# Altium footprint library tor1kkLib.PcbLib: 48 footprints (part 2 of 3)
Each footprint in its own frame and in the unit in brackets; x right, y up, seen from the top. Pads: shape width x height; smd on the part's side, far side on the other; paste and mask are expansions set on the pad; w line width, h text height; cw(c..) or ccw(c..) is an arc to the next point about the centre after c.
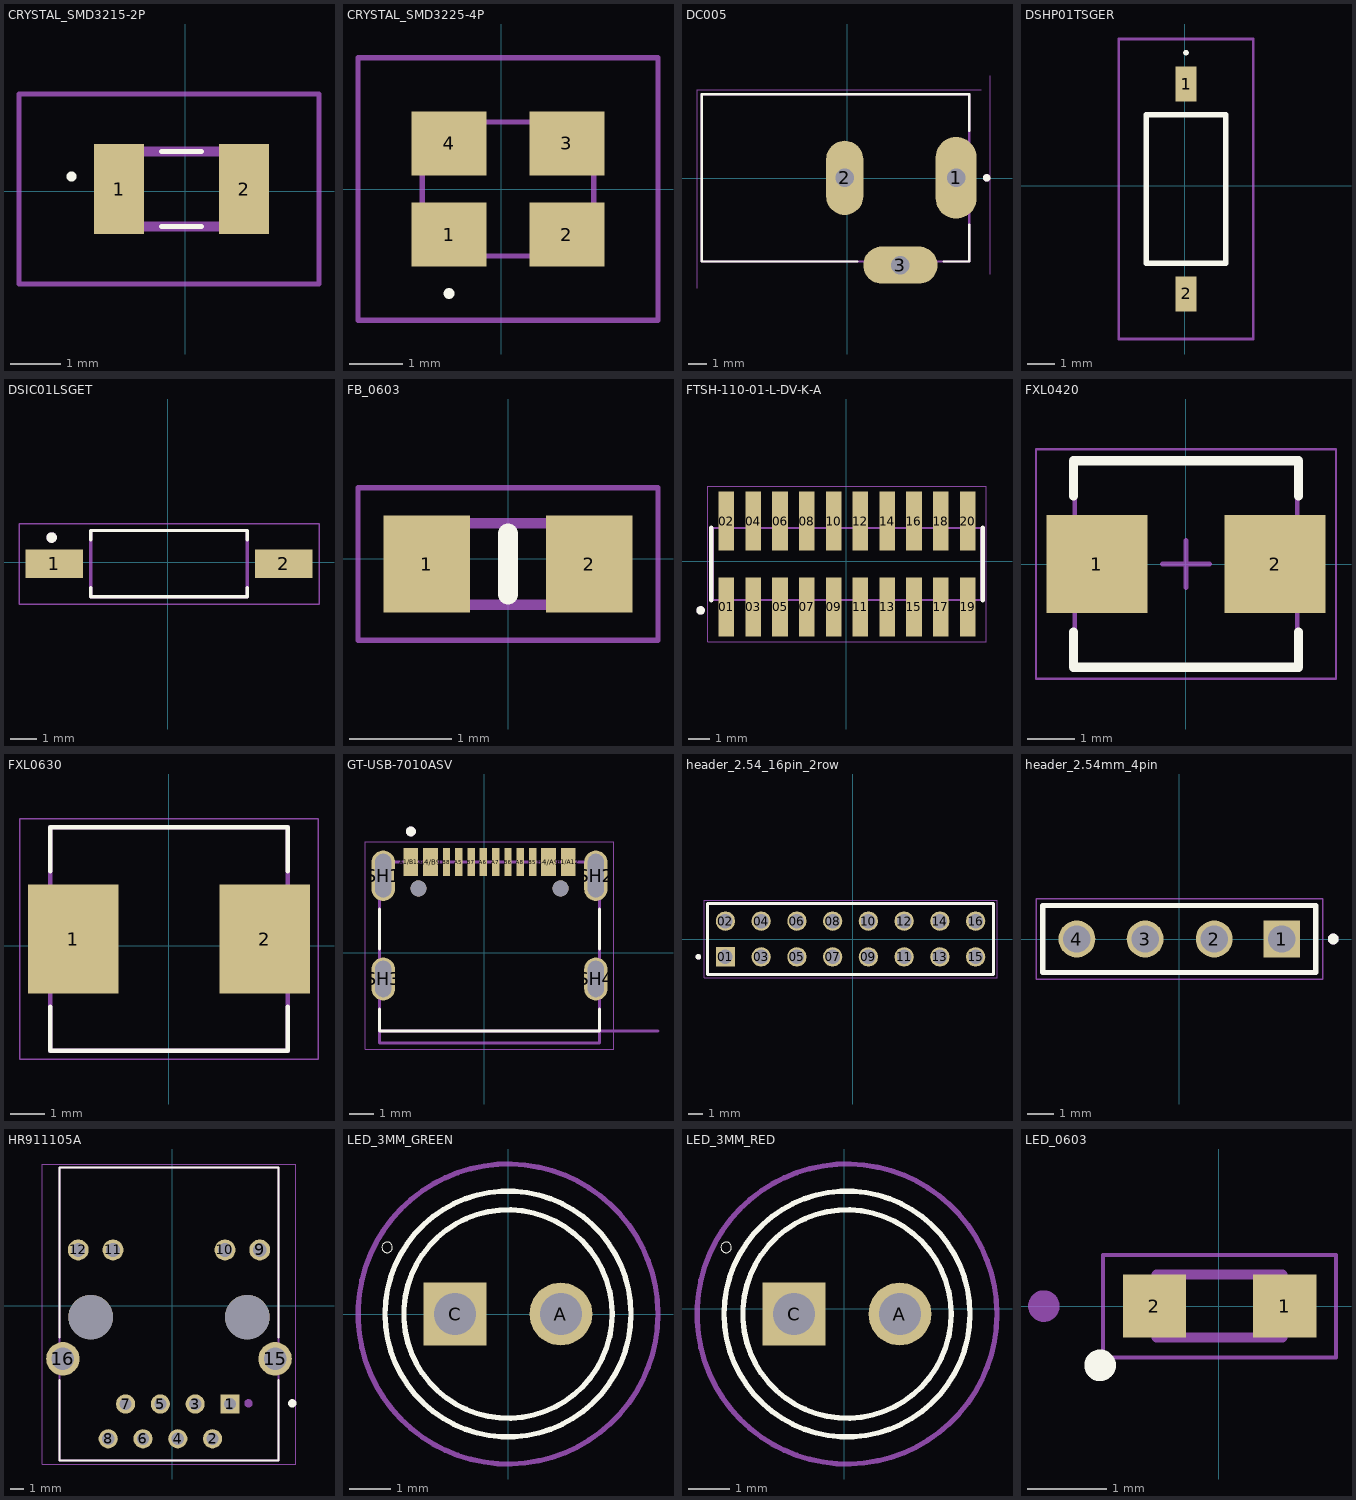
[diagram p1: the footprints below, top view; thin cyan lines are the x and y axes]

## CRYSTAL_SMD3215-2P [mm]
pads (2):
  rect 1x1.8 smd: 1(-1.323,0.041) 2(1.177,0.041)
Top Overlay:
  lines w0.1: -0.473,-0.709 0.327,-0.709 ; -0.473,0.791 0.327,0.791 ; -2.273,0.241 ccw(c-2.273,0.291) -2.273,0.341 ccw(c-2.273,0.291) -2.273,0.241
Mechanical 13:
  lines w0.2: -1.673,-0.709 1.527,-0.709 1.527,0.791 -1.673,0.791 -1.673,-0.709
Mechanical 15:
  lines w0.1: -3.323,-1.859 2.677,-1.859 2.677,1.941 -3.323,1.941 -3.323,-1.859
3D body "NX3215SA-32.768K-EXS00A-MU00003.STEP": height 0.9, standoff 0, extent -1.6,-0.709 1.6,0.791

## CRYSTAL_SMD3225-4P [mm]
pads (4):
  rect 1.4x1.2 smd: 1(-0.973,-0.85) 2(1.227,-0.85) 3(1.227,0.85) 4(-0.973,0.85)
Top Overlay:
  lines w0.1: -0.973,-2 cw(c-0.973,-1.95) -0.973,-1.9 cw(c-0.973,-1.95) -0.973,-2
Mechanical 13:
  lines w0.1: -1.473,-1.25 1.727,-1.25 1.727,1.25 -1.473,1.25 -1.473,-1.25
Mechanical 15:
  lines w0.1: -2.673,-2.45 2.927,-2.45 2.927,2.45 -2.673,2.45 -2.673,-2.45
3D body "TAXM8M4RDBCCT2T.stp": height 0.9, standoff 0, extent -1.553,-1.33 1.807,1.33

## DC005 [mm]
pads (3):
  oval 2.2x4.4 hole 1 square: 1(5.853,0.01)
  oval 2x4 hole 1 square: 2(-0.147,0.01)
  oval 4x2 hole 1 square: 3(2.853,-4.69)
Top Overlay:
  circle w0.2: c7.5,0.01 r0.1
  lines w0.127: 0.533,-4.49 -7.847,-4.49 -7.847,4.51 6.553,4.51 6.553,2.53 ; 5.173,-4.49 6.553,-4.49 6.553,-2.51
Mechanical 13:
  circle w0.2: c7.5,0.01 r0.1
  lines w0.127: -7.847,-4.49 6.553,-4.49 6.553,4.51 -7.847,4.51 -7.847,-4.49
Mechanical 15:
  lines w0.05: -8.097,-5.94 -8.097,4.76 7.203,4.76 ; 7.703,-5.19 7.703,5.51
3D body "DC-005.STEP": height 11, standoff -4.39, extent -7.9,-4.65 6.4,4.75

## DSHP01TSGER [mil]
pads (2):
  rect 29.92x50 smd: 1(2,145) 2(2,-155)
Top Overlay:
  lines w3.94: 2,187.91 ccw(c2,189.88) 2,191.85 ccw(c2,189.88) 2,187.91
  lines w7.87: -54.69,-111.3 58.69,-111.3 58.69,101.3 -54.69,101.3 -54.69,-111.3
Mechanical 13:
  lines w3.94: -54.69,-111.3 58.69,-111.3 58.69,101.3 -54.69,101.3 -54.69,-111.3
Mechanical 15:
  lines w3.94: -94.06,-219.37 98.06,-219.37 98.06,209.37 -94.06,209.37 -94.06,-219.37
3D body "416131160801+%28rev1%29.stp": height 106.3, standoff 1.97, extent -48.03,-174.08 48.03,166.08

## DSIC01LSGET [mm]
pads (2):
  rect 2.2x1.1 smd: 1(-4.36,-0.052) 2(4.44,-0.052)
Top Overlay:
  circle w0.2: c-4.46,0.948 r0.1
  lines w0.127: -2.96,-0.967 -2.96,-1.322 3.04,-1.322 3.04,-0.967 ; -2.96,0.863 -2.96,1.218 3.04,1.218 3.04,0.863
Mechanical 13:
  circle w0.2: c-4.46,0.948 r0.1
  lines w0.127: -2.96,-1.322 3.04,-1.322 3.04,1.218 -2.96,1.218 -2.96,-1.322
Mechanical 15:
  lines w0.05: -5.71,-1.6 -5.71,1.468 5.79,1.468 5.79,-1.6 -5.71,-1.6
3D body "A6S-1104-H--3DModel-STEP-273799.STEP": height 4.4, standoff 0, extent -4.722,-1.778 5.078,1.702

## FB_0603 [mm]
pads (2):
  rect 0.85x0.95 smd: 1(-0.8,-0.05) 2(0.8,-0.05)
Top Overlay:
  lines w0.2: 0,-0.35 0,0.25
Mechanical 13:
  lines w0.1: -0.8,-0.45 -0.8,0.35 0.8,0.35 0.8,-0.45 -0.8,-0.45
Mechanical 15:
  lines w0.05: -1.475,-0.8 -1.475,0.7 1.475,0.7 1.475,-0.8 -1.475,-0.8
3D body "Z0603C151BPWZT.stp": height 0.9, standoff 0, extent -0.85,-0.5 0.85,0.4

## FTSH-110-01-L-DV-K-A [mm]
pads (20):
  rect 0.74x2.79 smd: 01(-5.683,-2.172) 02(-5.683,1.898) 03(-4.413,-2.172) 04(-4.413,1.898) 05(-3.143,-2.172) 06(-3.143,1.898) 07(-1.873,-2.172) 08(-1.873,1.898) 09(-0.603,-2.172) 10(-0.603,1.898) 11(0.667,-2.172) 12(0.667,1.898) 13(1.937,-2.172) 14(1.937,1.898) 15(3.207,-2.172) 16(3.207,1.898) 17(4.477,-2.172) 18(4.477,1.898) 19(5.747,-2.172) 20(5.747,1.898)
Top Overlay:
  circle w0.2: c-6.908,-2.337 r0.1
  lines w0.2: -6.403,-1.852 -6.403,1.578 ; 6.467,-1.852 6.467,1.578
Mechanical 13:
  circle w0.2: c-6.908,-2.337 r0.1
  lines w0.1: -6.318,-1.852 -6.318,1.578 6.382,1.578 6.382,-1.852 -6.318,-1.852
Mechanical 15:
  lines w0.05: -6.568,-3.817 6.632,-3.817 6.632,3.543 -6.568,3.543 -6.568,-3.817
3D body "FTSH-110-01-L-DV-K-A.stp": height 5.71, standoff -1.27, extent -6.35,-3.058 6.35,2.784

## FXL0420 [mm] "SMD,4.2x4.4mm Power Inductors ROHS"
height 2.5
pads (2):
  rect 2.15x2.1 smd: 1(-1.9,0) 2(1.9,0)
Top Overlay:
  lines w0.2: -2.4,-1.45 -2.4,-2.2 2.4,-2.2 2.4,-1.45 ; -2.4,1.45 -2.4,2.2 2.4,2.2 2.4,1.45
Mechanical 13:
  lines w0.1: -2.375,-2.2 2.375,-2.2 2.375,2.2 -2.375,2.2 -2.375,-2.2
Mechanical 15:
  lines w0.05: -3.2,-2.45 3.2,-2.45 3.2,2.45 -3.2,2.45 -3.2,-2.45
  lines w0.1: -0.5,0 0.5,0 ; 0,-0.5 0,0.5
3D body "MPIA4012V2-1R0-R.stp": height 1.3, standoff -0.1, extent -2.4,-1.981 2.4,2.219

## FXL0630 [mm]
pads (2):
  rect 2.67x3.21 smd: 1(-2.808,0.205) 2(2.832,0.205)
Top Overlay:
  lines w0.127: -3.488,-1.795 -3.488,-3.095 3.512,-3.095 3.512,-1.795 ; -3.488,2.205 -3.488,3.505 3.512,3.505 3.512,2.205
Mechanical 13:
  lines w0.127: -3.488,-3.095 -3.488,3.505 3.512,3.505 3.512,-3.095 -3.488,-3.095
Mechanical 15:
  lines w0.05: -4.393,-3.345 -4.393,3.755 4.417,3.755 4.417,-3.345 -4.393,-3.345
3D body "AMPLA7030S-4R7MT--3DModel-STEP-368357.STEP": height 2.8, standoff -0.07, extent -3.708,-3.095 3.732,3.505

## GT-USB-7010ASV [mm] "USB 2.0 3A 1 Horizontal attachment 16P Female -40℃~+85℃ Type-C SMD USB Connectors ROHS"
pads (18):
  rect 0.6x1.14 smd mask+0.05: A1/B12(-2.977,3.684) A4/B9(-2.177,3.684) B1/A12(3.423,3.684) B4/A9(2.623,3.684)
  rect 0.3x1.14 smd mask+0.05: A5(-1.027,3.684) A6(-0.027,3.684) A7(0.473,3.684) A8(1.473,3.684) B5(1.973,3.684) B6(0.973,3.684) B7(-0.527,3.684) B8(-1.527,3.684)
  oval 0.95x2.05 hole 0.65 slot 1.776 at 90 deg: SH1(-4.102,3.134) SH2(4.548,3.134)
  oval 0.95x1.75 hole 0.65 slot 1.475 at 90 deg: SH3(-4.102,-1.066) SH4(4.548,-1.066)
  round 0.65 hole 0.65 unplated: ""(-2.667,2.614) ""(3.113,2.614)
Top Overlay:
  circle w0.2: c-2.977,4.934 r0.1
  lines w0.127: -4.247,-2.286 -4.247,-3.176 4.693,-3.176 4.693,-2.286 ; -4.247,0.154 -4.247,1.784 ; 4.693,0.154 4.693,1.784
Mechanical 13:
  circle w0.2: c-2.977,4.934 r0.1
  lines w0.127: 7.073,-3.176 -4.247,-3.176 ; -4.247,-3.176 -4.247,3.684 4.693,3.684 4.693,-3.666 -4.247,-3.666 -4.247,-3.176
  text "PCB Edge" at 5.423,-2.966 h0.61
Mechanical 15:
  lines w0.05: -4.827,-3.916 -4.827,4.504 5.273,4.504 5.273,-3.916 -4.827,-3.916
3D body "step_temp.STEP": height 3.26, standoff -0.9, extent -4.247,-3.912 4.693,3.738

## header_2.54_16pin_2row [mm]
pads (16):
  rect 1.37x1.37 / inner round 1.37 / far side rect 1.37x1.37 hole 1.02: 01(-9.04,-1.25)
  round 1.37 hole 1.02: 02(-9.04,1.29) 03(-6.5,-1.25) 04(-6.5,1.29) 05(-3.96,-1.25) 06(-3.96,1.29) 07(-1.42,-1.25) 08(-1.42,1.29) 09(1.12,-1.25) 10(1.12,1.29) 11(3.66,-1.25) 12(3.66,1.29) 13(6.2,-1.25) 14(6.2,1.29) 15(8.74,-1.25) 16(8.74,1.29)
Top Overlay:
  circle w0.2: c-10.96,-1.25 r0.1
  lines w0.2: -10.31,-2.495 -10.31,2.535 10.01,2.535 10.01,-2.495 -10.31,-2.495
Mechanical 13:
  circle w0.2: c-10.96,-1.25 r0.1
  lines w0.1: -10.31,-2.495 -10.31,2.535 10.01,2.535 10.01,-2.495 -10.31,-2.495
Mechanical 15:
  lines w0.05: -10.56,-2.745 -10.56,2.785 10.26,2.785 10.26,-2.745 -10.56,-2.745
3D body "HTSW-108-08-S-D-LL.stp": height 8.38, standoff -5.08, extent -10.41,-2.515 9.91,2.515

## header_2.54mm_4pin [mm]
pads (4):
  rect 1.37x1.37 / inner round 1.37 / far side rect 1.37x1.37 hole 1.02: 1(3.81,0)
  round 1.37 hole 1.02: 2(1.3,0) 3(-1.27,0) 4(-3.81,0)
Top Overlay:
  circle w0.2: c5.73,0 r0.1
  lines w0.2: -5.08,-1.245 -5.08,1.245 5.08,1.245 5.08,-1.245 -5.08,-1.245
Mechanical 13:
  circle w0.2: c5.73,0 r0.1
  lines w0.1: -5.08,-1.245 -5.08,1.245 5.08,1.245 5.08,-1.245 -5.08,-1.245
Mechanical 15:
  lines w0.05: -5.33,-1.495 -5.33,1.495 5.33,1.495 5.33,-1.495 -5.33,-1.495
3D body "HTSW-104-14-G-S.stp": height 10.67, standoff -2.79, extent -5.08,-1.27 5.08,1.219

## HR911105A [mm]
pads (16):
  rect 1.398x1.398 / inner round 1.398 / far side rect 1.398x1.398 hole 0.89: 1(4.203,-7.179)
  round 1.398 hole 0.89: 2(2.933,-9.719) 3(1.663,-7.179) 4(0.393,-9.719) 5(-0.877,-7.179) 6(-2.147,-9.719) 7(-3.417,-7.179) 8(-4.687,-9.719)
  round 1.53 hole 1.02: 9(6.378,4.071) 10(3.838,4.071) 11(-4.332,4.071) 12(-6.872,4.071)
  round 2.445 hole 1.63: 15(7.498,-3.879) 16(-7.992,-3.879)
  round 3.25 hole 3.25 unplated: ""(-5.962,-0.829) ""(5.468,-0.829)
Top Overlay:
  circle w0.3: c8.753,-7.129 r0.15
  lines w0.127: -8.247,-5.429 -8.247,-11.309 7.753,-11.309 7.753,-5.429 ; -8.247,-2.329 -8.247,10.091 7.753,10.091 7.753,-2.329
Mechanical 13:
  circle w0.3: c5.553,-7.129 r0.15
  lines w0.127: -8.247,-11.309 -8.247,10.091 7.753,10.091 7.753,-11.309 -8.247,-11.309
Mechanical 15:
  lines w0.05: -9.497,-11.559 -9.497,10.341 9.003,10.341 9.003,-11.559 -9.497,-11.559
3D body "step_temp.STEP": height 13.5, standoff -3.05, extent -8.267,-11.209 7.773,10.091

## LED_3MM_GREEN [mm]
pads (2):
  round 1.508 hole 1: A(1.27,0)
  rect 1.508x1.508 / inner round 1.508 / far side rect 1.508x1.508 hole 1: C(-1.27,0)
Top Overlay:
  circle w0.127: c0,0 r2.95
  circle w0.127: c0,0 r2.5
  circle w0: c-2.9,1.6 r0.127
Mechanical 15:
  circle w0.127: c0,0 r3.6
3D body "WP710A10LID.STEP": height 8.44, standoff -23.46, extent -1.62,-1.35 1.62,1.85

## LED_3MM_RED [mm]
pads (2):
  round 1.508 hole 1: A(1.335,-0.12)
  rect 1.508x1.508 / inner round 1.508 / far side rect 1.508x1.508 hole 1: C(-1.205,-0.12)
Top Overlay:
  circle w0.127: c0.065,-0.12 r2.95
  circle w0.127: c0.065,-0.12 r2.5
  circle w0: c-2.835,1.48 r0.127
Mechanical 15:
  circle w0.127: c0.065,-0.12 r3.6
3D body "step_temp.STEP": height 9.6, standoff -26, extent -2.435,-3.07 3.015,2.83

## LED_0603 [mm]
pads (2):
  rect 0.8x0.8 smd: 1(0.838,0) 2(-0.812,0)
Top Overlay:
  circle w0.2: c-1.5,-0.75 r0.1
Mechanical 13:
  circle w0.2: c-2.212,0 r0.1
  lines w0.127: -0.787,-0.4 -0.787,0.4 0.813,0.4 0.813,-0.4 -0.787,-0.4
Mechanical 15:
  lines w0.05: -1.462,-0.65 1.488,-0.65 1.488,0.65 -1.462,0.65 -1.462,-0.65
3D body "597-5004-407F.STEP": height 0.7, standoff 0, extent -0.787,-0.4 0.813,0.4